# EAGLE library part TC4051BP (library TC4051BP)
TC4051BP Toshiba, Multiplexer/Demultiplexer Single 8:1, 12 V, 15 V, 5 V, 9 V, 16-Pin PDIP Source: Datasheet <https://pdf1.alldatasheet.com/datasheet-pdf/view/31640/TOSHIBA/TC4051BP.html>
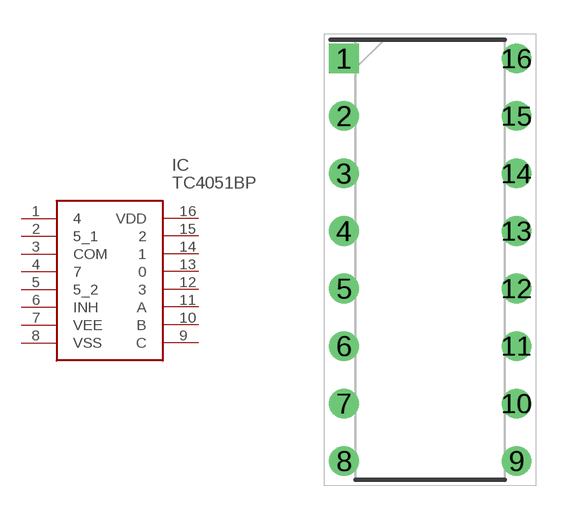
[diagram p0: symbol with the pads of DIP762W60P254L1925H445Q16N; footprint DIP762W60P254L1925H445Q16N]

Designator prefix IC

## TC4051BP (Description: TC4051BP Toshiba, Multiplexer/Demultiplexer Single 8:1, 12 V, 15 V, 5 V, 9 V, 16-Pin PDIP; Height: 4.45mm; Manufacturer_Name: Toshiba; Manufacturer_Part_Number: TC4051BP; Mouser_Part_Number: N/A; Mouser_Price-Stock: https://www.mouser.co.uk/ProductDetail/Toshiba/TC4051BP?qs=f0GatGUIxV14%252BVsMEr24fA%3D%3D)  [DIP762W60P254L1925H445Q16N]
1  4
2  5_1
3  COM
4  7
5  5_2
6  INH
7  VEE
8  VSS
9  C
10  B
11  A
12  3
13  0
14  1
15  2
16  VDD

## Footprint DIP762W60P254L1925H445Q16N (pad centres in mm)
DIP-16-P-300-2.54A_1-1
drill 0.8 pad 1.2 square: 1 -3.81,8.89
drill 0.8 pad 1.2: 2 -3.81,6.35; 3 -3.81,3.81; 4 -3.81,1.27; 5 -3.81,-1.27; 6 -3.81,-3.81; 7 -3.81,-6.35; 8 -3.81,-8.89; 9 3.81,-8.89; 10 3.81,-6.35; 11 3.81,-3.81; 12 3.81,-1.27; 13 3.81,1.27; 14 3.81,3.81; 15 3.81,6.35; 16 3.81,8.89